# Altium schematic symbol library TBP02R138102BE.SchLib: 1 symbol
Pins are listed as number, name and electrical type; pins without a type are passive.

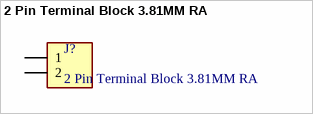
[diagram p0: symbol 2 Pin Terminal Block 3.81MM RA]

## 2 Pin Terminal Block 3.81MM RA
designator J?
2 Pin Terminal Block HDR 3.81MM THT RA TBP02R138102BE; MF: Same Sky; MP: TBP02R1-381-02BE; SnapEDA_Link: https://www.snapeda.com/parts/TBP02R1-381-02BE/Same+Sky/view-part/?ref=snap; Package: None; Value: *; Check_prices: https://www.snapeda.com/parts/TBP02R1-381-02BE/Same+Sky/view-part/?ref=eda
footprint CUI_TBP02R138102BE
pins: 1, 2